# Altium footprint library TO220.PcbLib: 1 footprints
Each footprint in its own frame and in the unit in brackets; x right, y up, seen from the top. Pads: shape width x height; smd on the part's side, far side on the other; paste and mask are expansions set on the pad; w line width, h text height; cw(c..) or ccw(c..) is an arc to the next point about the centre after c.
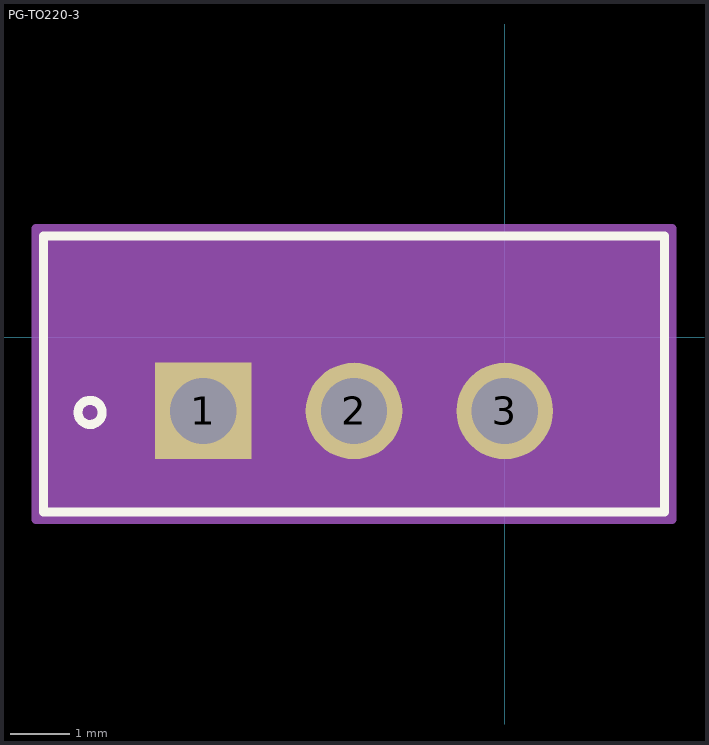
[diagram p0: the footprint, top view; thin cyan lines are the x and y axes]

## PG-TO220-3 [mil]
pads (3):
  rect 64x64 hole 44: 1(-200,-49)
  round 64 hole 44: 2(-100,-49) 3(0,-49)
Top Overlay:
  circle w6: c-275,-50 r8
  lines w6: -306,-116 106,-116 106,67 -306,67 -306,-116
Mechanical 5:
  region: -300,65 100.99,65 100.99,-111 -300,-111
Mechanical 13:
  circle w0: c-291,-101 r8
  lines w1: -301,-111 101,-111 101,62 -301,62 -301,-111
Mechanical 15:
  region: 111,72 -311,72 -311,-121 111,-121
  lines w6: -311,-121 -311,72 111,72 111,-121 -311,-121
3D body: height 10, standoff 0, extent 0,0 10,10
3D body "PG-TO220-3.step": height 877.83, standoff -39.13, extent -300.98,-111 100.99,61.99